# EAGLE library part CY7C65213-32LTXI* (library cypress_usb-serial)
USB-UART LP Bridge Controller Features: USB 2.0 certified, Full-Speed (12 Mbps) Single-channel configurable UART interface General-purpose input/output (GPIO) pins: 8 Source: http://www.cypress.com/?docID=49680
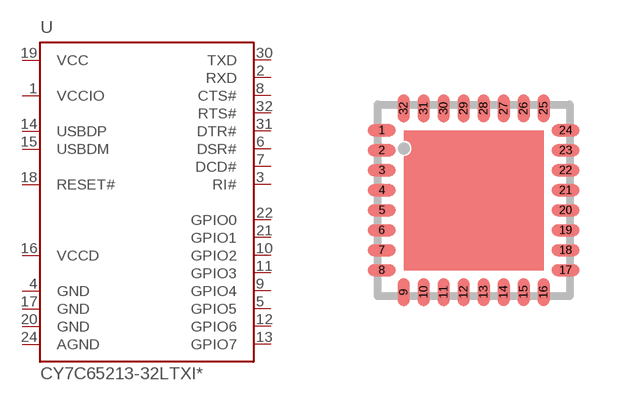
[diagram p1: symbol with the pads of QFN32; footprint QFN32]

Designator prefix -

## CY7C65213-32LTXI (MPN: CY7C65213-32LTXI; OC_DIGIKEY: CY7C65213-32LTXI-ND; OC_FARNELL: 2345648; OC_MOUSER: 727-CY7C65213-32LTXI; OC_NEWARK: 06X1914; TAPE_REEL: NO), CY7C65213-32LTXIT (MPN: CY7C65213-32LTXIT; OC_DIGIKEY: unknown; OC_FARNELL: unknown; OC_MOUSER: 727-CY7C6521332LTXIT; OC_NEWARK: 46X1385; TAPE_REEL: YES)  [QFN32]
1  VCCIO  pwr
2  RXD  in
3  RI#
4  GND  pwr
5  GPIO5
6  DSR#  in
7  DCD#  in
8  CTS#  in
9  GPIO4
10  GPIO2
11  GPIO3
12  GPIO6
13  GPIO7
14  USBDP
15  USBDM
16  VCCD  pwr
17  GND  pwr
18  RESET#  in
19  VCC  pwr
20  GND  pwr
21  GPIO1
22  GPIO0
24  AGND  pwr
30  TXD  out
31  DTR#  out
32  RTS#  out

## Footprint QFN32 (pad centres in mm)
32-pin QFN (5 × 5 × 1 mm, 0.5 mm pitch) Original part from cypress.lbr.
smd 0.7 x 0.3: 1 -2.3,1.75; 2 -2.3,1.25; 3 -2.3,0.75; 4 -2.3,0.25; 5 -2.3,-0.25; 6 -2.3,-0.75; 7 -2.3,-1.25; 8 -2.3,-1.75; 17 2.3,-1.75; 18 2.3,-1.25; 19 2.3,-0.75; 20 2.3,-0.25; 21 2.3,0.25; 22 2.3,0.75; 23 2.3,1.25; 24 2.3,1.75
smd 0.3 x 0.7: 9 -1.75,-2.3; 10 -1.25,-2.3; 11 -0.75,-2.3; 12 -0.25,-2.3; 13 0.25,-2.3; 14 0.75,-2.3; 15 1.25,-2.3; 16 1.75,-2.3; 25 1.75,2.3; 26 1.25,2.3; 27 0.75,2.3; 28 0.25,2.3; 29 -0.25,2.3; 30 -0.75,2.3; 31 -1.25,2.3; 32 -1.75,2.3